# Altium schematic symbol library MFRC531_SO32.SchLib: 1 symbol
Pins are listed as number, name and electrical type; pins without a type are passive.

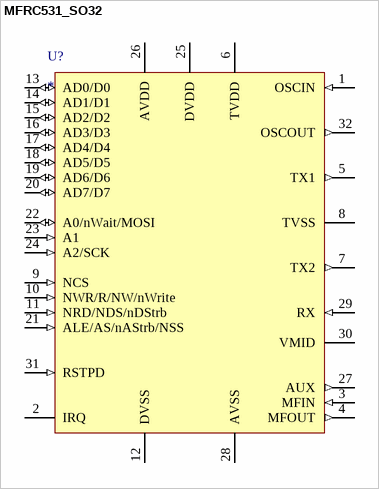
[diagram p0: symbol MFRC531_SO32]

## MFRC531_SO32
designator U?
pins: 1 OSCIN (in), 2 IRQ, 3 MFIN (in), 4 MFOUT (out), 5 TX1 (out), 6 TVDD (power), 7 TX2 (out), 8 TVSS (power), 9 NCS (in), 10 NWR/R/NW/nWrite (in), 11 NRD/NDS/nDStrb (in), 12 DVSS (power), 13 AD0/D0 (io), 14 AD1/D1 (io), 15 AD2/D2 (io), 16 AD3/D3 (io), 17 AD4/D4 (io), 18 AD5/D5 (io), 19 AD6/D6 (io), 20 AD7/D7 (io), 21 ALE/AS/nAStrb/NSS (in), 22 A0/nWait/MOSI (io), 23 A1 (in), 24 A2/SCK (in), 25 DVDD (power), 26 AVDD (power), 27 AUX (out), 28 AVSS (power), 29 RX (in), 30 VMID, 31 RSTPD (in), 32 OSCOUT (out)